# Altium footprint library PcbLib1.PcbLib: 3 footprints
Each footprint in its own frame and in the unit in brackets; x right, y up, seen from the top. Pads: shape width x height; smd on the part's side, far side on the other; paste and mask are expansions set on the pad; w line width, h text height; cw(c..) or ccw(c..) is an arc to the next point about the centre after c.
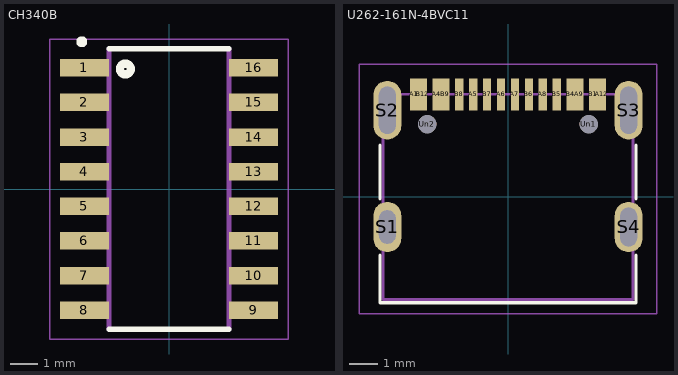
[diagram p0: the footprints below, top view; thin cyan lines are the x and y axes]

## CH340B [mm] "- USB 2.0 Transceiver 2Mbps SOP-16_150mil USB ICs ROHS"
pads (16):
  rect 1.8x0.64 smd: 1(-3.105,4.445) 2(-3.105,3.175) 3(-3.105,1.905) 4(-3.105,0.635) 5(-3.105,-0.635) 6(-3.105,-1.905) 7(-3.105,-3.175) 8(-3.105,-4.445) 9(3.105,-4.445) 10(3.105,-3.175) 11(3.105,-1.905) 12(3.105,-0.635) 13(3.105,0.635) 14(3.105,1.905) 15(3.105,3.175) 16(3.105,4.445)
Top Overlay:
  circle w0.3: c-1.6,4.4 r0.2
  circle w0.2: c-3.2,5.4 r0.1
  lines w0.2: -2.2,-5.15 2.2,-5.15 ; -2.2,5.15 2.2,5.15
Mechanical 13:
  lines w0.2: -2.2,-5.15 -2.2,5.15 ; 2.2,-5.15 2.2,5.15
Mechanical 15:
  lines w0.05: -4.375,-5.5 -4.375,5.5 4.375,5.5 4.375,-5.5 -4.375,-5.5
3D body "SOP-16.STEP": height 2.14, standoff 0.02, extent -3.555,-5.51 3.555,5.51

## PCBComponent_1 [mm]

## U262-161N-4BVC11 [mm] "USB-C"
pads (22):
  rect 0.3x1.15 smd: A1(-3.35,3.67) A4(-2.55,3.67) A5(-1.25,3.67) A6(-0.25,3.67) A7(0.25,3.67) A8(1.25,3.67) A9(2.55,3.67) A12(3.35,3.67) B1(3.05,3.67) B4(2.25,3.67) B5(1.75,3.67) B6(0.75,3.67) B7(-0.75,3.67) B8(-1.75,3.67) B9(-2.25,3.67) B12(-3.05,3.67)
  rrect100% 1x1.8 hole 1.2 slot 0.6 at 0 deg: S1(-4.32,-1.075)
  rrect100% 1x2.1 hole 1.7 slot 0.6 at 0 deg: S2(-4.32,3.105) S3(4.32,3.105)
  rrect100% 1x1.8 hole 1.4 slot 0.6 at 0 deg: S4(4.32,-1.075)
  round 0.65 hole 0.65: Un1(2.89,2.605) Un2(-2.89,2.605)
Top Overlay:
  lines w0.12: -4.58,-2.08 -4.58,-3.785 4.58,-3.785 4.58,-2.08 ; -4.58,-0.07 -4.58,1.85 ; 4.58,-0.07 4.58,1.85
Mechanical 4:
  lines w0.05: -5.32,-4.18 5.32,-4.18 5.32,4.75 -5.32,4.75 -5.32,-4.18
Mechanical 6:
  lines w0.1: -4.47,-3.675 -4.47,3.675 4.47,3.675 4.47,-3.675 -4.47,-3.675
3D body "u262-16xn-4bvc11.stp": height 3.33, standoff -0.93, extent -4.45,-3.55 4.45,4.01